# Altium schematic symbol library TRANS_RM6.SchLib: 1 symbol
Pins are listed as number, name and electrical type; pins without a type are passive.

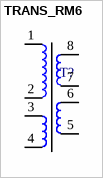
[diagram p0: symbol TRANS_RM6]

## TRANS_RM6
designator T?  (value not drawn)
footprint TRANS_ETD_29
pins: 1, 2, 3, 4, 5, 6, 7, 8